# Altium footprint library PcbLib2.PcbLib: 5 footprints
Each footprint in its own frame and in the unit in brackets; x right, y up, seen from the top. Pads: shape width x height; smd on the part's side, far side on the other; paste and mask are expansions set on the pad; w line width, h text height; cw(c..) or ccw(c..) is an arc to the next point about the centre after c.
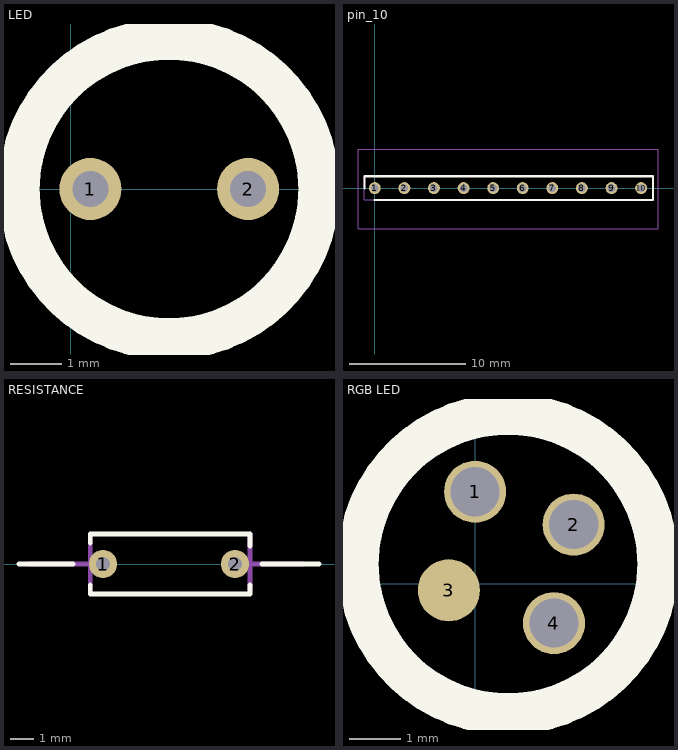
[diagram p0: the footprints below, top view; thin cyan lines are the x and y axes]

## LED [mm]
pads (2):
  round 1.2 hole 0.7: 1(0.381,0) 2(3.429,0)
Top Overlay:
  circle w0.8: c1.9,0 r2.9

## PCBComponent_1 [mil]

## pin_10 [mm]
pads (10):
  round 1.02 / inner round 1.575 / far side round 1.02 hole 0.65: 1(0,0) 2(2.54,0) 3(5.08,0)
  round 1.02 hole 0.65: 4(7.62,0) 5(10.16,0) 6(12.7,0) 7(15.24,0) 8(17.78,0) 9(20.32,0) 10(22.86,0)
Top Overlay:
  lines w0.2: -0.889,0 -0.889,1.016 23.876,1.016 23.876,-1.016 0,-1.016
Mechanical 15:
  lines w0.1: -0.889,-1.016 -0.889,1.016 23.876,1.016 23.876,-1.016 -0.889,-1.016
Mechanical 20:
  lines w0.05: -1.44,-3.5 -1.44,3.35 24.31,3.35 24.31,-3.5 -1.44,-3.5

## RESISTANCE [mm]
pads (2):
  round 1.2 hole 0.6: 1(4.318,0) 2(9.906,0)
Top Overlay:
  lines w0.2: 0.762,0 3.048,0 ; 3.775,-0.889 3.775,-1.27 10.541,-1.27 10.541,-0.889 ; 3.775,0.889 3.775,1.27 10.541,1.27 10.541,0.762 ; 11.049,0 13.462,0
Mechanical 1:
  lines w0.2: 1.2,0 3.775,0 ; 3.775,-1.143 3.775,0 ; 3.775,1.27 3.775,0 ; 10.225,0 12.8,0 ; 10.541,-1.081 10.541,1.27

## RGB LED [mm]
pads (4):
  round 1.2 hole 0.95: 1(0,1.778) 2(1.905,1.143) 4(1.524,-0.762)
  round 1.2 all layers, no hole: 3(-0.508,-0.127)
Top Overlay:
  circle w0.8: c0.635,0.381 r2.9